# EAGLE library part 690357280876 (library Eagle_BOARD-TO-BOARD_CONNECTORS (rev18b))
WR-MM Male SMT Connector without Latch and without Polarization, 8 pins=>Code : Con_BTB_MM_SMT_690357280876 <http://katalog.we-online.de/media/thumbs2/eican/thb_Con_BTB_MM_SMT_69035728xx76_pf2.jpg> Details see: http://katalog.we-online.de/en/em/6903_5728_xx_76 Created 2014-06-04, Karrer Zheng 2014 (C) Würth Elektronik
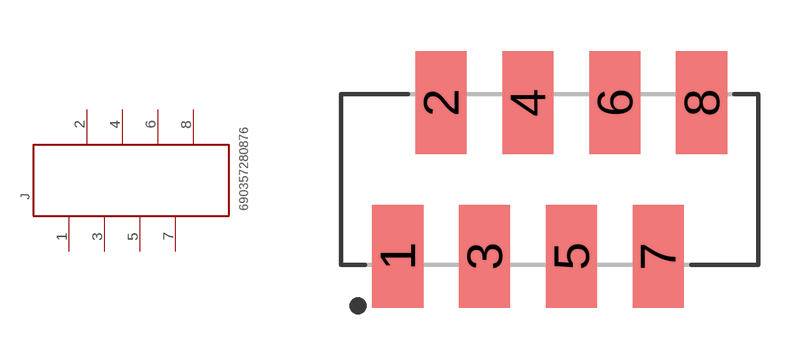
[diagram p317: symbol with the pads of 690357280876; footprint 690357280876]

Designator prefix J

## 690357280876  [690357280876]
1  1  pas
2  2  pas
3  3  pas
4  4  pas
5  5  pas
6  6  pas
7  7  pas
8  8  pas

## Footprint 690357280876 (pad centres in mm)
WR-MM Male SMT Connector without Latch and without Polarization, 8 pins
smd 1.5 x 3: 1 -4.445,-2.25; 2 -3.175,2.25; 3 -1.905,-2.25; 4 -0.635,2.25; 5 0.635,-2.25; 6 1.905,2.25; 7 3.175,-2.25; 8 4.445,2.25